# EAGLE library part AT42QT2120-COMMS (library Deegou_IC)
Capacitive Touch Sensors 12 channel AT42QT2120-XU, Spread-Spectrum Charge-Transfer Touch Screen Controller Serial-I2C, 20-Pin TSSOP Source: Datasheet <http://docs-emea.rs-online.com/webdocs/1441/0900766b81441bc2.pdf>
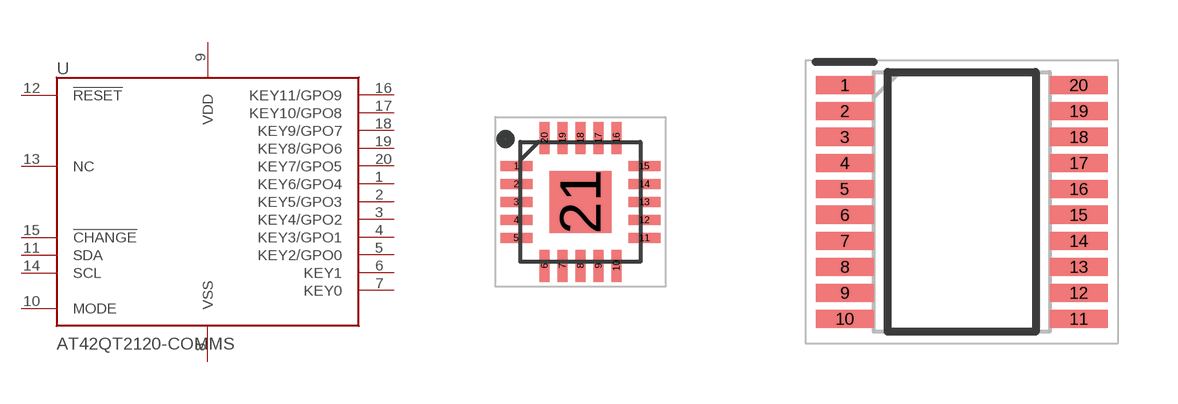
[diagram p95: symbol with the pads of QFN45P300X300X85-21N; footprints QFN45P300X300X85-21N, SOP65P638X120-20N]

Designator prefix U

## AT42QT2120-COMMS-20M2  [QFN45P300X300X85-21N]
1  KEY6/GPO4
2  KEY5/GPO3
3  KEY4/GPO2
4  KEY3/GPO1
5  KEY2/GPO0
6  KEY1
7  KEY0
8  VSS
9  VDD
10  MODE
11  SDA
12  !RESET
13  NC
14  SCL
15  !CHANGE
16  KEY11/GPO9
17  KEY10/GPO8
18  KEY9/GPO7
19  KEY8/GPO6
20  KEY7/GPO5

## AT42QT2120-COMMS-TSSOP20  [SOP65P638X120-20N]
1  KEY8/GPO6
2  KEY7/GPO5
3  KEY6/GPO4
4  KEY5/GPO3
5  KEY4/GPO2
6  KEY3/GPO1
7  KEY2/GPO0
8  KEY1
9  KEY0
10  VSS
11  VDD
12  MODE
13  SDA
14  !RESET
15  NC
16  SCL
17  !CHANGE
18  KEY11/GPO9
19  KEY10/GPO8
20  KEY9/GPO7

## Footprint QFN45P300X300X85-21N (pad centres in mm)
20m2
smd 0.8 x 0.25: 1 -1.6,0.9; 2 -1.6,0.45; 3 -1.6,0; 4 -1.6,-0.45; 5 -1.6,-0.9; 11 1.6,-0.9; 12 1.6,-0.45; 13 1.6,0; 14 1.6,0.45; 15 1.6,0.9
smd 0.25 x 0.8: 6 -0.9,-1.6; 7 -0.45,-1.6; 8 0,-1.6; 9 0.45,-1.6; 10 0.9,-1.6; 16 0.9,1.6; 17 0.45,1.6; 18 0,1.6; 19 -0.45,1.6; 20 -0.9,1.6
smd 1.55 x 1.55: 21 0,0

## Footprint SOP65P638X120-20N (pad centres in mm)
20X
smd 1.45 x 0.45: 1 -2.925,2.925; 2 -2.925,2.275; 3 -2.925,1.625; 4 -2.925,0.975; 5 -2.925,0.325; 6 -2.925,-0.325; 7 -2.925,-0.975; 8 -2.925,-1.625; 9 -2.925,-2.275; 10 -2.925,-2.925; 11 2.925,-2.925; 12 2.925,-2.275; 13 2.925,-1.625; 14 2.925,-0.975; 15 2.925,-0.325; 16 2.925,0.325; 17 2.925,0.975; 18 2.925,1.625; 19 2.925,2.275; 20 2.925,2.925